# EAGLE library part P-05080_RK0971221-F15-C0-A103 (library Akizuki)
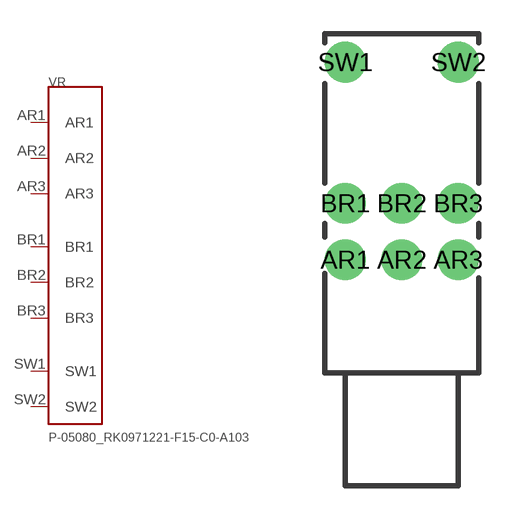
[diagram p37: symbol with the pads of RK0971221-F15-C0-A103; footprint RK0971221-F15-C0-A103]

Designator prefix VR

## P-05080_RK0971221-F15-C0-A103  [RK0971221-F15-C0-A103]
AR1  AR1
AR2  AR2
AR3  AR3
BR1  BR1
BR2  BR2
BR3  BR3
SW1  SW1
SW2  SW2

## Footprint RK0971221-F15-C0-A103 (pad centres in mm)
drill 0.8 pad 1.8: AR1 -2.5,0; AR2 0,0; AR3 2.5,0; BR1 -2.5,2.5; BR2 0,2.5; BR3 2.5,2.5; SW1 -2.5,8.75; SW2 2.5,8.75